# EAGLE library part MDT420E01001 (library notecard)
PCI Express / PCI Connectors 67P SMT RCPT H4.20 E Key, 30u" Au Source: Datasheet <https://componentsearchengine.com/Datasheets/1/MDT420E01001.pdf>
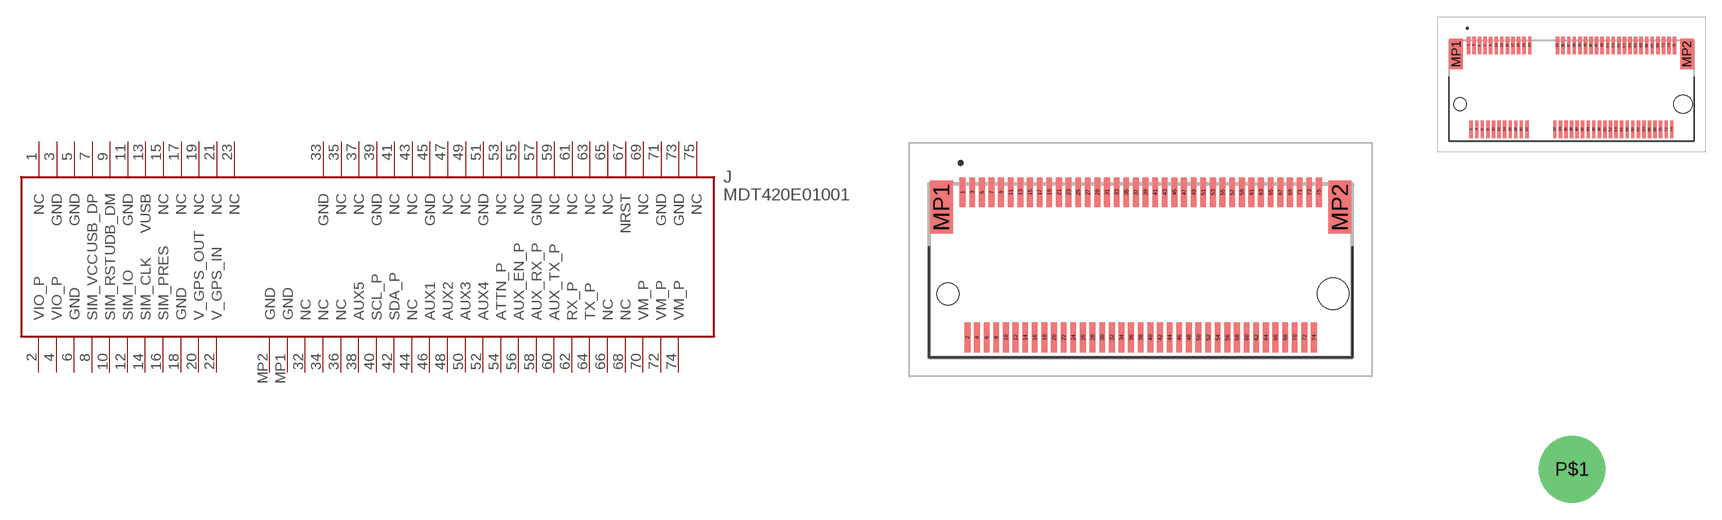
[diagram p0: symbol with the pads of MDT420E01001; footprints MDT420E01001, NOTECARD]

Designator prefix J

## MDT420E01001 (DESCRIPTION: PCI Express / PCI Connectors 67P SMT RCPT H4.20 E Key, 30u" Au; HEIGHT: 4.2mm; MANUFACTURER_NAME: Amphenol; MANUFACTURER_PART_NUMBER: MDT420E01001; MOUSER_PART_NUMBER: 523-MDT420E01001; MOUSER_PRICE-STOCK: https://www.mouser.co.uk/ProductDetail/Amphenol-FCI/MDT420E01001/?qs=lrCDz5EUXIbvJuEZzMOQQQ%3D%3D)  [MDT420E01001]
1  NC
2  VIO_P
3  GND
4  VIO_P
5  GND
6  GND
7  USB_DP
8  SIM_VCC
9  UDB_DM
10  SIM_RST
11  GND
12  SIM_IO
13  VUSB
14  SIM_CLK
15  NC
16  SIM_PRES
17  NC
18  GND
19  NC
20  V_GPS_OUT
21  NC
22  V_GPS_IN
23  NC
32  NC
33  GND
34  NC
35  NC
36  NC
37  NC
38  AUX5
39  GND
40  SCL_P
41  NC
42  SDA_P
43  NC
44  NC
45  GND
46  AUX1
47  NC
48  AUX2
49  NC
50  AUX3
51  GND
52  AUX4
53  NC
54  ATTN_P
55  NC
56  AUX_EN_P
57  GND
58  AUX_RX_P
59  NC
60  AUX_TX_P
61  NC
62  RX_P
63  NC
64  TX_P
65  NC
66  NC
67  NRST
68  NC
69  NC
70  VM_P
71  GND
72  VM_P
73  GND
74  VM_P
75  NC
MP1  GND  pwr
MP2  GND

## MDT420E01001NOTECARD  [NOTECARD]
Pads as for MDT420E01001

## Footprint MDT420E01001 (pad centres in mm)
MDT420E01001-2
smd 0.3 x 1.55: 1 -9.25,4.075; 2 -9,-3.475; 3 -8.75,4.075; 4 -8.5,-3.475; 5 -8.25,4.075; 6 -8,-3.475; 7 -7.75,4.075; 8 -7.5,-3.475; 9 -7.25,4.075; 10 -7,-3.475; 11 -6.75,4.075; 12 -6.5,-3.475; 13 -6.25,4.075; 14 -6,-3.475; 15 -5.75,4.075; 16 -5.5,-3.475; 17 -5.25,4.075; 18 -5,-3.475; 19 -4.75,4.075; 20 -4.5,-3.475; 21 -4.25,4.075; 22 -4,-3.475; 23 -3.75,4.075; 24 -3.5,-3.475; 25 -3.25,4.075; 26 -3,-3.475; 27 -2.75,4.075; 28 -2.5,-3.475; 29 -2.25,4.075; 30 -2,-3.475; 31 -1.75,4.075; 32 -1.5,-3.475; 33 -1.25,4.075; 34 -1,-3.475; 35 -0.75,4.075; 36 -0.5,-3.475; 37 -0.25,4.075; 38 0,-3.475; 39 0.25,4.075; 40 0.5,-3.475; 41 0.75,4.075; 42 1,-3.475; 43 1.25,4.075; 44 1.5,-3.475; 45 1.75,4.075; 46 2,-3.475; 47 2.25,4.075; 48 2.5,-3.475; 49 2.75,4.075; 50 3,-3.475; 51 3.25,4.075; 52 3.5,-3.475; 53 3.75,4.075; 54 4,-3.475; 55 4.25,4.075; 56 4.5,-3.475; 57 4.75,4.075; 58 5,-3.475; 59 5.25,4.075; 60 5.5,-3.475; 61 5.75,4.075; 62 6,-3.475; 63 6.25,4.075; 64 6.5,-3.475; 65 6.75,4.075; 66 7,-3.475; 67 7.25,4.075; 68 7.5,-3.475; 69 7.75,4.075; 70 8,-3.475; 71 8.25,4.075; 72 8.5,-3.475; 73 8.75,4.075; 74 9,-3.475; 75 9.25,4.075
smd 1.2 x 2.75: MP1 -10.35,3.3; MP2 10.35,3.3
hole 1.15 at -10,-1.2
hole 1.65 at 10,-1.2

## Footprint NOTECARD (pad centres in mm)
MDT420E01001-2
smd 0.3 x 1.55: 1 -9.25,4.075; 2 -9,-3.475; 3 -8.75,4.075; 4 -8.5,-3.475; 5 -8.25,4.075; 6 -8,-3.475; 7 -7.75,4.075; 8 -7.5,-3.475; 9 -7.25,4.075; 10 -7,-3.475; 11 -6.75,4.075; 12 -6.5,-3.475; 13 -6.25,4.075; 14 -6,-3.475; 15 -5.75,4.075; 16 -5.5,-3.475; 17 -5.25,4.075; 18 -5,-3.475; 19 -4.75,4.075; 20 -4.5,-3.475; 21 -4.25,4.075; 22 -4,-3.475; 23 -3.75,4.075; 32 -1.5,-3.475; 33 -1.25,4.075; 34 -1,-3.475; 35 -0.75,4.075; 36 -0.5,-3.475; 37 -0.25,4.075; 38 0,-3.475; 39 0.25,4.075; 40 0.5,-3.475; 41 0.75,4.075; 42 1,-3.475; 43 1.25,4.075; 44 1.5,-3.475; 45 1.75,4.075; 46 2,-3.475; 47 2.25,4.075; 48 2.5,-3.475; 49 2.75,4.075; 50 3,-3.475; 51 3.25,4.075; 52 3.5,-3.475; 53 3.75,4.075; 54 4,-3.475; 55 4.25,4.075; 56 4.5,-3.475; 57 4.75,4.075; 58 5,-3.475; 59 5.25,4.075; 60 5.5,-3.475; 61 5.75,4.075; 62 6,-3.475; 63 6.25,4.075; 64 6.5,-3.475; 65 6.75,4.075; 66 7,-3.475; 67 7.25,4.075; 68 7.5,-3.475; 69 7.75,4.075; 70 8,-3.475; 71 8.25,4.075; 72 8.5,-3.475; 73 8.75,4.075; 74 9,-3.475; 75 9.25,4.075
smd 1.2 x 2.75: MP1 -10.35,3.3; MP2 10.35,3.3
drill 3.7 pad 6: P$1 0.05,-34
hole 1.15 at -10,-1.2
hole 1.65 at 10,-1.2